# Altium footprint library Dronepcb.PcbLib: 34 footprints (part 1 of 3)
Each footprint in its own frame and in the unit in brackets; x right, y up, seen from the top. Pads: shape width x height; smd on the part's side, far side on the other; paste and mask are expansions set on the pad; w line width, h text height; cw(c..) or ccw(c..) is an arc to the next point about the centre after c.
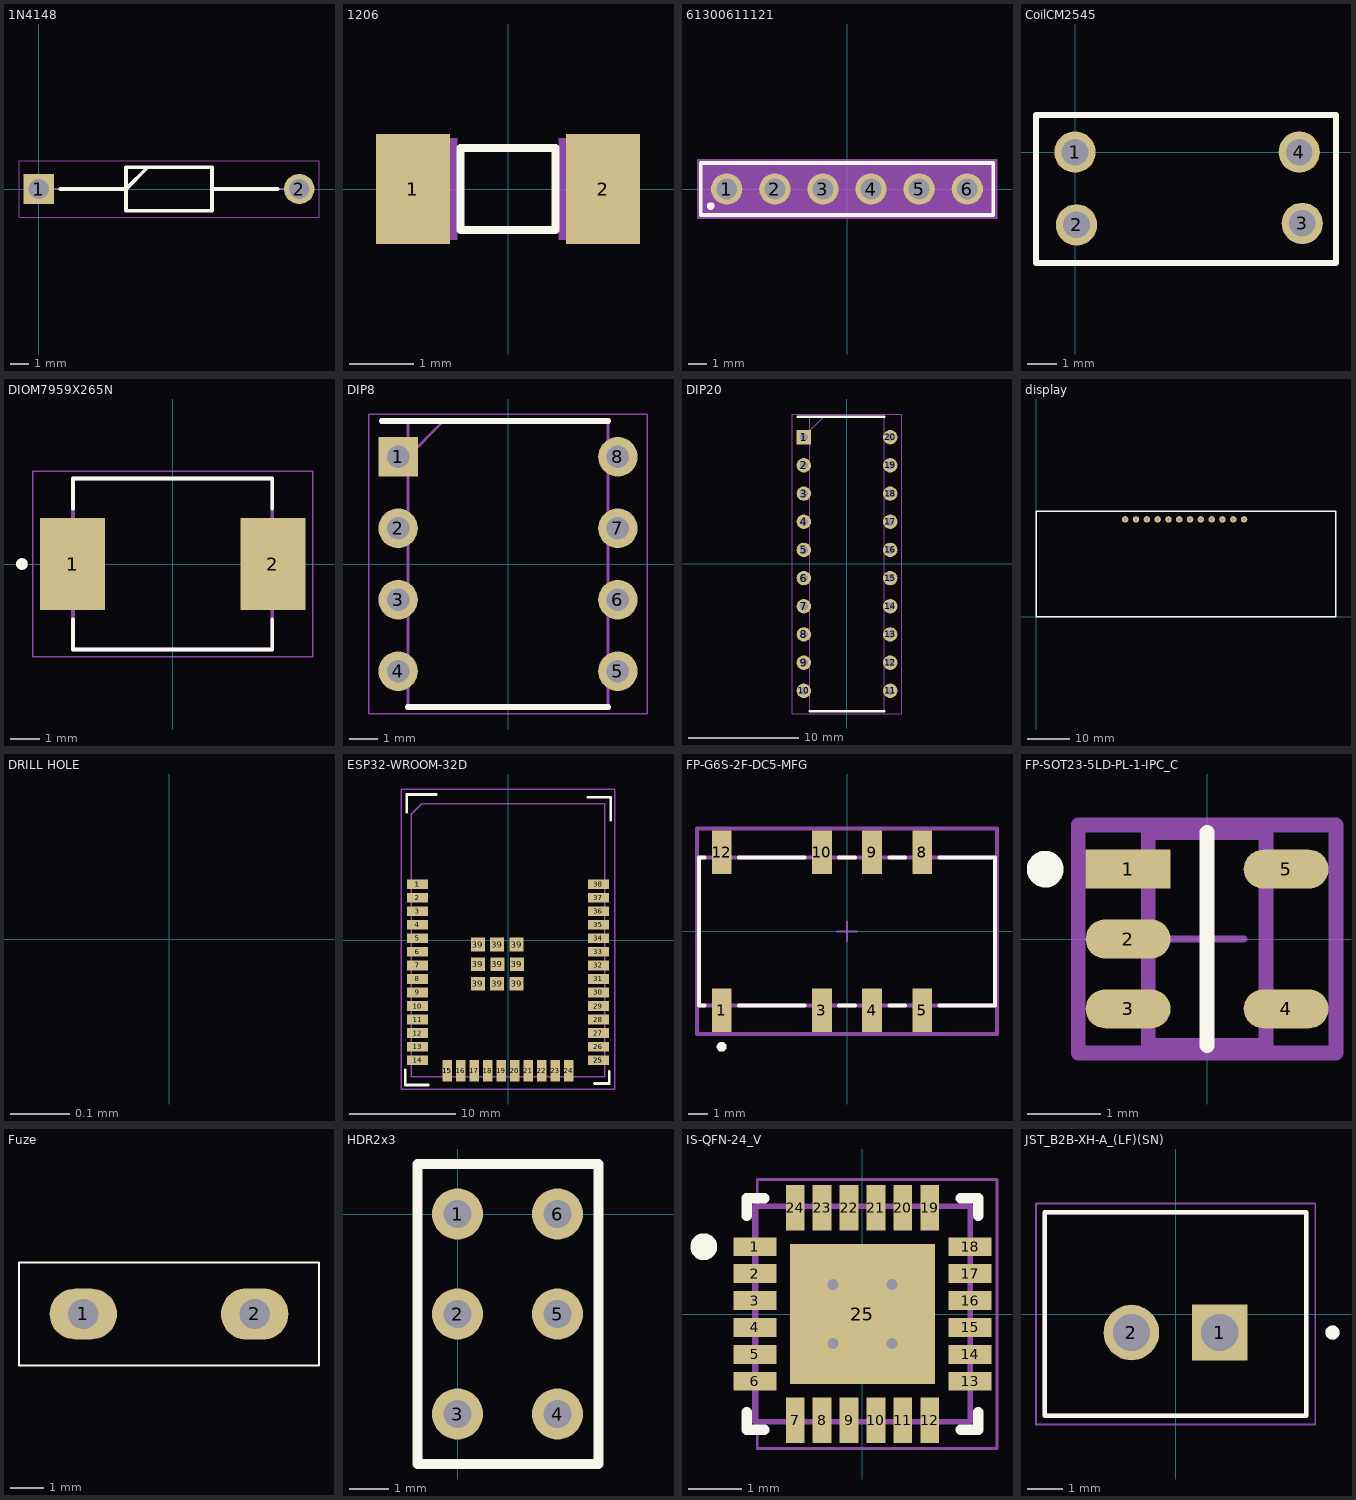
[diagram p0: the footprints below, top view; thin cyan lines are the x and y axes]

## 1N4148 [mm]
pads (2):
  rect 1.65x1.65 hole 1.1: 1(0,0)
  round 1.65 hole 1.1: 2(14.1,0)
Top Overlay:
  lines w0.2: 1.175,0 4.725,0 5.9,1.175 ; 9.375,0 12.925,0 ; 4.725,-1.175 4.725,1.175 9.375,1.175 9.375,-1.175 4.725,-1.175
Mechanical 13:
  lines w0.1: 0,0 4.725,0 5.9,1.175 ; 9.375,0 14.1,0 ; 4.725,-1.175 4.725,1.175 9.375,1.175 9.375,-1.175 4.725,-1.175
Mechanical 15:
  lines w0.05: -1.075,-1.525 -1.075,1.525 15.175,1.525 15.175,-1.525 -1.075,-1.525
3D body "1N4007-E3_53.stp": height 2.69, standoff -2.7, extent -0.441,-1.347 14.495,1.347

## 1206 [mil]
pads (2):
  rect 45x67 smd: 1(-58,0) 2(58,0)
Top Overlay:
  lines w5: -29,-25 -29,25 29,25 29,-25 -29,-25
Mechanical 13:
  region: 51,-31 31,-31 31,31 51,31
  region: -31,-31 -51,-31 -51,31 -31,31

## 61300611121 [mm]
pads (6):
  round 1.65 hole 1.1: 1(-6.35,0) 2(-3.81,0) 3(-1.27,0) 4(1.27,0) 5(3.81,0) 6(6.35,0)
Top Overlay:
  circle w0.2: c-7.2,-0.9 r0.1
  lines w0.2: -7.72,-1.37 -7.72,1.37 7.72,1.37 7.72,-1.37 -7.72,-1.37
Mechanical 13:
  lines w0.1: -7.62,-1.27 7.62,-1.27 7.62,1.27 -7.62,1.27 -7.62,-1.27
Mechanical 15:
  region: 7.92,-1.57 -7.92,-1.57 -7.92,1.57 7.92,1.57

## CoilCM2545 [mm]
pads (4):
  round 1.4 hole 0.9: 1(0,0) 2(0.051,-2.464) 3(7.696,-2.413) 4(7.595,0)
Top Overlay:
  lines w0.2: 4.531,1.25 8.839,1.25 8.839,-3.75 -1.321,-3.75 -1.321,1.25 4.674,1.25

## DIOM7959X265N [mm]
height 2.65
pads (2):
  rect 2.25x3.18 smd paste+0 mask+0.102: 1(-3.455,0) 2(3.455,0)
Top Overlay:
  circle w0.2: c-5.2,0 r0.1
  lines w0.127: -3.437,-1.91 -3.437,-2.95 3.437,-2.95 3.437,-1.91 ; -3.437,1.91 -3.437,2.95 3.437,2.95 3.437,1.91
Mechanical 13:
  circle w0.2: c-5.2,0 r0.1
  lines w0.127: -3.437,-2.95 3.437,-2.95 3.437,2.95 -3.437,2.95 -3.437,-2.95
Mechanical 15:
  lines w0.05: -4.83,-3.2 -4.83,3.2 4.83,3.2 4.83,-3.2 -4.83,-3.2

## DIP8 [mm]
pads (8):
  rect 1.4x1.4 hole 0.8: 1(-3.905,3.81)
  round 1.4 hole 0.8: 2(-3.905,1.27) 3(-3.905,-1.27) 4(-3.905,-3.81) 5(3.905,-3.81) 6(3.905,-1.27) 7(3.905,1.27) 8(3.905,3.81)
Top Overlay:
  lines w0.2: -4.484,5.08 3.556,5.08 ; -3.556,-5.08 3.556,-5.08
Mechanical 13:
  lines w0.1: -3.556,3.81 -2.286,5.08 ; -3.556,-5.08 3.556,-5.08 3.556,5.08 -3.556,5.08 -3.556,-5.08
Mechanical 15:
  lines w0.05: -4.956,-5.33 4.956,-5.33 4.956,5.33 -4.956,5.33 -4.956,-5.33
3D body "MCP6002-E_P.stp": height 5.33, standoff -3.5, extent -4.045,-4.75 4.045,4.75

## DIP20 [mm]
pads (20):
  rect 1.3x1.3 hole 0.73: 1(-3.892,11.43)
  round 1.3 hole 0.73: 2(-3.892,8.89) 3(-3.892,6.35) 4(-3.892,3.81) 5(-3.892,1.27) 6(-3.892,-1.27) 7(-3.892,-3.81) 8(-3.892,-6.35) 9(-3.892,-8.89) 10(-3.892,-11.43) 11(3.892,-11.43) 12(3.892,-8.89) 13(3.892,-6.35) 14(3.892,-3.81) 15(3.892,-1.27) 16(3.892,1.27) 17(3.892,3.81) 18(3.892,6.35) 19(3.892,8.89) 20(3.892,11.43)
Top Overlay:
  lines w0.2: -4.458,13.27 3.375,13.27 ; -3.375,-13.27 3.375,-13.27
Mechanical 13:
  lines w0.1: -3.375,12 -2.105,13.27 ; -3.375,-13.27 -3.375,13.27 3.375,13.27 3.375,-13.27 -3.375,-13.27
Mechanical 15:
  lines w0.05: -4.94,-13.52 -4.94,13.52 4.94,13.52 4.94,-13.52 -4.94,-13.52
3D body "TM1637.stp": height 4.31, standoff -3.5, extent -4.025,-13.06 4.025,13.06

## display [mil]
pads (12):
  round 60 hole 30: 1(825,900) 2(925,900) 3(1025,900) 4(1125,900) 5(1225,900) 6(1325,900) 7(1425,900) 8(1525,900) 9(1625,900) 10(1725,900) 11(1825,900) 12(1925,900)
Top Overlay:
  lines w11.81: 0,0 2775,0 2775,975 0,975 0,0

## DRILL HOLE [mm]
Multi-Layer:
  circle w1: c0,0 r0

## ESP32-WROOM-32D [mm]
height 3.2
pads (50):
  rect 2x0.9 smd: 1(-8.5,5.26) 1(-8.5,5.26) 2(-8.5,3.99) 3(-8.5,2.72) 4(-8.5,1.45) 5(-8.5,0.18) 6(-8.5,-1.09) 7(-8.5,-2.36) 8(-8.5,-3.63) 9(-8.5,-4.9) 10(-8.5,-6.17) 11(-8.5,-7.44) 12(-8.5,-8.71) 13(-8.5,-9.98) 14(-8.5,-11.25) 25(8.5,-11.25) 25(8.5,-11.25) 26(8.5,-9.98) 27(8.5,-8.71) 28(8.5,-7.44) 29(8.5,-6.17) 30(8.5,-4.9) 31(8.5,-3.63) 32(8.5,-2.36) 33(8.5,-1.09) 34(8.5,0.18) 35(8.5,1.45) 36(8.5,2.72) 37(8.5,3.99) 38(8.5,5.26)
  rect 0.9x2 smd: 15(-5.715,-12.25) 15(-5.715,-12.25) 16(-4.445,-12.25) 17(-3.175,-12.25) 18(-1.905,-12.25) 19(-0.635,-12.25) 20(0.635,-12.25) 21(1.905,-12.25) 22(3.175,-12.25) 23(4.445,-12.25) 24(5.715,-12.25)
  rect 1.3x1.3 smd: 39(-2.835,-4.075) 39(-2.835,-2.24) 39(-2.835,-0.405) 39(-1.03,-4.083) 39(-1.03,-0.397) 39(-1,-2.24) 39(0.805,-4.083) 39(0.805,-0.397) 39(0.835,-2.24)
Top Overlay:
  lines w0.254: -9.652,-12.192 -9.652,-13.589 -7.493,-13.589 ; -9.525,12.065 -9.525,13.716 -6.731,13.716 ; 7.493,13.462 9.652,13.462 9.652,11.303 ; 8.128,-13.462 9.525,-13.462 9.525,-12.319
Top Courtyard:
  lines w0.12: -10.033,-1.984 -10.033,-0.407 ; -10.033,-1.984 -10.033,-2.264 -10.033,-4.401 -10.033,-11.449 -10.033,-13.97 -9.1,-13.97 -6.734,-13.97 -6.683,-13.97 -3.147,-13.97 4.08,-13.97 7.616,-13.97 7.667,-13.97 10.033,-13.97 10.033,-5.46 10.033,5.487 10.033,8.955 10.033,10.292 10.033,12.827 10.033,14.224 7.843,14.224 3.853,14.224 -2.92,14.224 -7.703,14.224 -9.619,14.224 -10.033,14.224 -10.033,12.7 -10.033,1.778 -10.033,0.889 -10.033,0.648 -10.033,-0.14 -10.033,-0.407 ; -10.033,-1.984 -10.033,-0.407
Top Assembly:
  lines w0.12: -9.1,-12.8 9.1,-12.8 9.1,12.827 -8.128,12.827 -9.1,11.855 -9.1,11.43 -9.1,-12.8
  text ".designator" at -3.575,0.923 h1.52
3D body "ESP-32 .step": height 2.61, standoff -0.1, extent -8.95,-12.7 8.95,12.7

## FP-G6S-2F-DC5-MFG [mm]
pads (8):
  rect 1x2.2 smd paste+0 mask+0: 1(-6.35,-4) 3(-1.27,-4) 4(1.27,-4) 5(3.81,-4) 8(3.81,4) 9(1.27,4) 10(-1.27,4) 12(-6.35,4)
Top Overlay:
  circle w0.25: c-6.35,-5.85 r0.125
  lines w0.2: -7.225,-3.75 -7.5,-3.75 -7.5,3.75 -7.225,3.75 ; -5.475,-3.75 -2.145,-3.75 ; -5.475,3.75 -2.145,3.75 ; -0.395,-3.75 0.395,-3.75 ; -0.395,3.75 0.395,3.75 ; 2.145,-3.75 2.935,-3.75 ; 2.145,3.75 2.935,3.75 ; 4.685,-3.75 7.5,-3.75 7.5,3.75 4.685,3.75
Top 3D Body:
  lines w0.2: -7.5,-3.75 -7.5,3.75 7.5,3.75 7.5,-3.75 -7.5,-3.75
Top Courtyard:
  lines w0.2: -7.6,-5.2 -7.6,5.2 7.6,5.2 7.6,-5.2 -7.6,-5.2
Top Assembly:
  lines w0.2: -7.6,-5.2 -7.6,5.2 7.6,5.2 7.6,-5.2 -7.6,-5.2
  text ".Designator" at 0,0 h1
Top Component Center:
  lines w0.1: -0.5,0 0.5,0 ; 0,-0.5 0,0.5

## FP-SOT23-5LD-PL-1-IPC_C [mm]
pads (5):
  rect 1.156x0.53 smd paste+0 mask+0: 1(-1.075,0.95)
  rrect100% 1.156x0.53 smd paste+0 mask+0: 2(-1.075,0) 3(-1.075,-0.95) 4(1.075,-0.95) 5(1.075,0.95)
Top Overlay:
  circle w0.25: c-2.203,0.95 r0.125
  lines w0.2: -0.003,-1.45 -0.003,1.45 0.003,1.45 0.003,-1.45 -0.003,-1.45
Top 3D Body:
  lines w0.2: -0.8,-1.45 0.8,-1.45 0.8,1.45 -0.8,1.45 -0.8,-1.45
Top Courtyard:
  lines w0.2: -1.753,-1.55 1.753,-1.55 1.753,1.55 -1.753,1.55 -1.753,-1.55
Top Assembly:
  lines w0.2: -1.753,-1.55 1.753,-1.55 1.753,1.55 -1.753,1.55 -1.753,-1.55
  text ".Designator" at 0,0.189 h1
Top Component Center:
  lines w0.1: -0.5,0 0.5,0 ; 0,-0.5 0,0.5
3D body "IC_Microchip_MIC7300YM5-TR_eec.STEP": height 0.25, standoff 0, extent -1.753,-1.55 1.753,1.55

## Fuze [mm]
pads (2):
  oval 2x1.5 hole 0.9: 1(-1109.98,129.54)
  oval 2x1.524 hole 0.9: 2(-1104.9,129.54)
Top Overlay:
  lines w0.05: -1111.885,128.016 -1102.995,128.016 -1102.995,128.397 -1102.995,131.064 -1111.885,131.064 -1111.885,128.016

## HDR2x3 [mm]
pads (6):
  round 1.3 hole 0.7: 1(0,0) 2(0,-2.54) 3(0,-5.08) 4(2.54,-5.08) 5(2.54,-2.54) 6(2.54,0)
Top Overlay:
  lines w0.254: 0.635,1.27 3.581,1.27 3.581,-6.35 -1.016,-6.35 -1.016,1.27 1.905,1.27

## IS-QFN-24_V [mm] "QFN, 24-Leads, Body 4x4mm, Pitch 0.5mm, Thermal Pad 2.7x2.6mm"
height 0.95
pads (25):
  rect 0.8x0.35 smd: 1(-2,1.25) 2(-2,0.75) 3(-2,0.25) 4(-2,-0.25) 5(-2,-0.75) 6(-2,-1.25) 13(2,-1.25) 14(2,-0.75) 15(2,-0.25) 16(2,0.25) 17(2,0.75) 18(2,1.25)
  rect 0.35x0.85 smd mask+0.102: 7(-1.25,-1.975) 8(-0.75,-1.975) 9(-0.25,-1.975) 10(0.25,-1.975) 11(0.75,-1.975) 12(1.25,-1.975) 19(1.25,1.975) 20(0.75,1.975) 21(0.25,1.975) 22(-0.25,1.975) 23(-0.75,1.975) 24(-1.25,1.975)
  rect 2.7x2.6 smd: 25(0,0)
via -0.55,-0.55 diameter 0.5 hole 0.2
via 0.55,-0.55 diameter 0.5 hole 0.2
via 0.55,0.55 diameter 0.5 hole 0.2
via -0.55,0.55 diameter 0.5 hole 0.2
Top Overlay:
  circle w0.25: c-2.95,1.25 r0.125
  lines w0.2: -2.15,-1.825 -2.15,-2.15 -1.825,-2.15 ; -2.15,1.825 -2.15,2.15 -1.825,2.15 ; 1.825,-2.15 2.15,-2.15 2.15,-1.825 ; 1.825,2.15 2.15,2.15 2.15,1.825
Mechanical 13:
  lines w0.1: -2,-2 -2,2 2,2 2,-2 -2,-2
Mechanical 15:
  lines w0.05: -1.956,-2.5 2.5,-2.5 2.5,2.5 -1.956,2.5 -1.956,-2.5
  lines w0.1: -0.5,0 0.5,0 ; 0,-0.5 0,0.5
3D body: height 0.95, standoff 0, extent -1.999,-1.999 1.999,1.999

## JST_B2B-XH-A_(LF)(SN) [mm]
height 7
pads (2):
  rect 1.575x1.575 / inner round 1.575 / far side rect 1.575x1.575 hole 1.05: 1(1.25,-0.525)
  round 1.575 hole 1.05: 2(-1.25,-0.525)
Top Overlay:
  circle w0.2: c4.44,-0.525 r0.1
  lines w0.127: -3.7,-2.875 -3.7,2.875 3.7,2.875 3.7,-2.875 -3.7,-2.875
Mechanical 13:
  circle w0.2: c4.44,-0.525 r0.1
  lines w0.127: -3.7,-2.875 -3.7,2.875 3.7,2.875 3.7,-2.875 -3.7,-2.875
Mechanical 15:
  lines w0.05: -3.95,-3.125 3.95,-3.125 3.95,3.125 -3.95,3.125 -3.95,-3.125
3D body "step_temp.STEP": height 7, standoff -3.4, extent -3.7,-2.875 3.7,2.875